# EAGLE library part STM32L452RET_64PIN_SMPS (library df4iah_stm32l4)
STM32L452RET6P 64LQFP
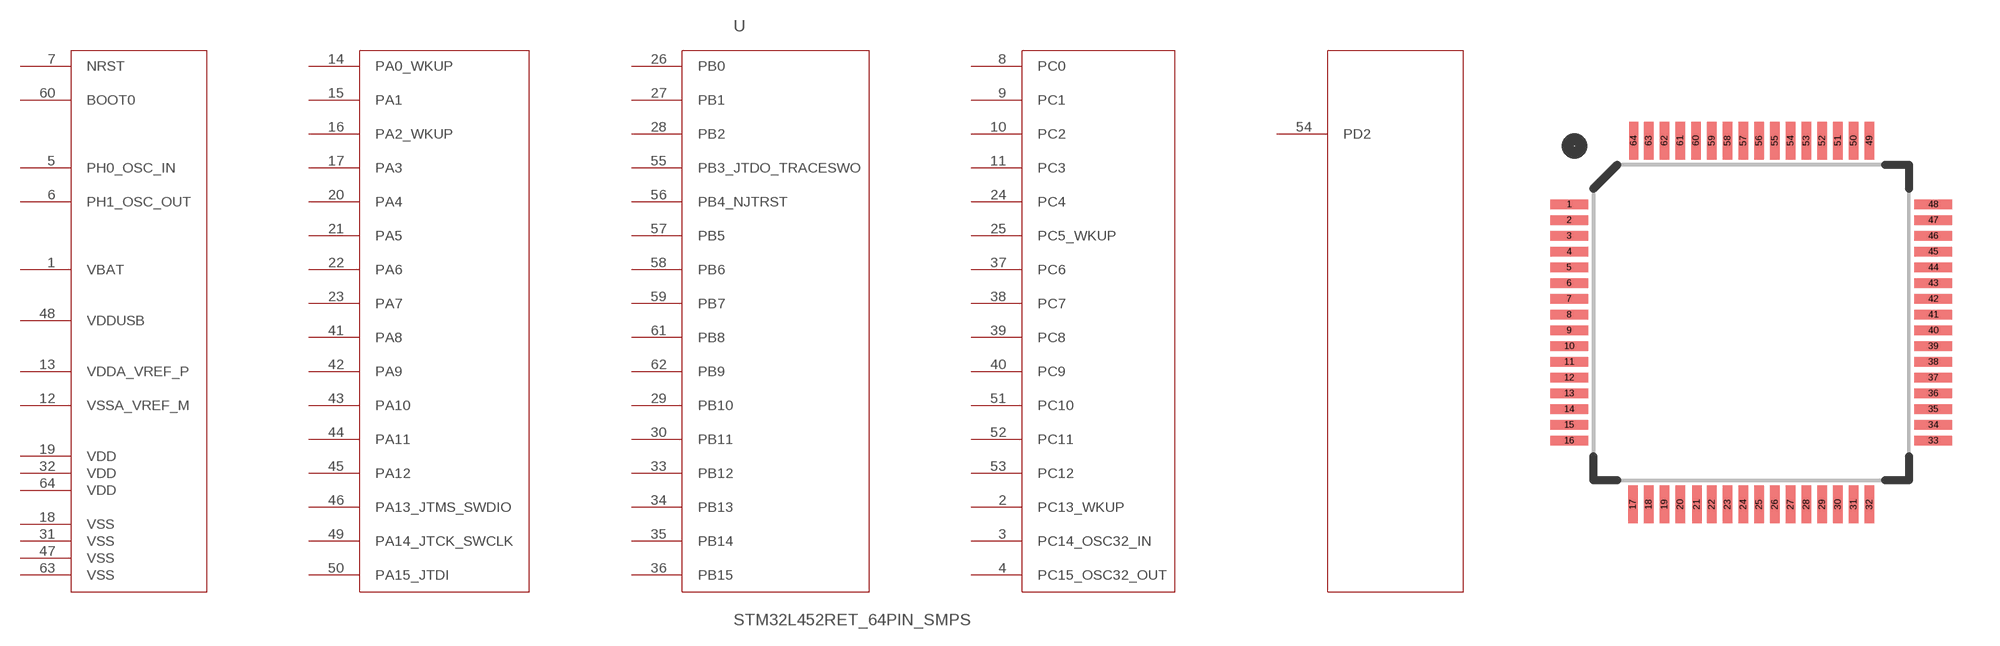
[diagram p3: symbol with the pads of LQFP64; footprint LQFP64]

Designator prefix U

## STM32L452RET_64PIN_SMPS  [LQFP64]
1  VBAT  pwr
2  PC13_WKUP
3  PC14_OSC32_IN
4  PC15_OSC32_OUT
5  PH0_OSC_IN
6  PH1_OSC_OUT
7  NRST
8  PC0
9  PC1
10  PC2
11  PC3
12  VSSA_VREF_M  pas
13  VDDA_VREF_P  pwr
14  PA0_WKUP
15  PA1
16  PA2_WKUP
17  PA3
18  VSS  pas
19  VDD  pwr
20  PA4
21  PA5
22  PA6
23  PA7
24  PC4
25  PC5_WKUP
26  PB0
27  PB1
28  PB2
29  PB10
30  PB11
31  VSS  pas
32  VDD  pwr
33  PB12
34  PB13
35  PB14
36  PB15
37  PC6
38  PC7
39  PC8
40  PC9
41  PA8
42  PA9
43  PA10
44  PA11
45  PA12
46  PA13_JTMS_SWDIO
47  VSS  pas
48  VDDUSB  pwr
49  PA14_JTCK_SWCLK
50  PA15_JTDI
51  PC10
52  PC11
53  PC12
54  PD2
55  PB3_JTDO_TRACESWO
56  PB4_NJTRST
57  PB5
58  PB6
59  PB7
60  BOOT0  out
61  PB8
62  PB9
63  VSS  pas
64  VDD  pwr

## Footprint LQFP64 (pad centres in mm)
LQFP64 0.5mm pitch
smd 1.2 x 0.3: 1 -5.775,3.75; 2 -5.775,3.25; 3 -5.775,2.75; 4 -5.775,2.25; 5 -5.775,1.75; 6 -5.775,1.25; 7 -5.775,0.75; 8 -5.775,0.25; 9 -5.775,-0.25; 10 -5.775,-0.75; 11 -5.775,-1.25; 12 -5.775,-1.75; 13 -5.775,-2.25; 14 -5.775,-2.75; 15 -5.775,-3.25; 16 -5.775,-3.75; 33 5.775,-3.75; 34 5.775,-3.25; 35 5.775,-2.75; 36 5.775,-2.25; 37 5.775,-1.75; 38 5.775,-1.25; 39 5.775,-0.75; 40 5.775,-0.25; 41 5.775,0.25; 42 5.775,0.75; 43 5.775,1.25; 44 5.775,1.75; 45 5.775,2.25; 46 5.775,2.75; 47 5.775,3.25; 48 5.775,3.75
smd 0.3 x 1.2: 17 -3.75,-5.775; 18 -3.25,-5.775; 19 -2.75,-5.775; 20 -2.25,-5.775; 21 -1.725,-5.775; 22 -1.25,-5.775; 23 -0.75,-5.775; 24 -0.25,-5.775; 25 0.25,-5.775; 26 0.75,-5.775; 27 1.25,-5.775; 28 1.75,-5.775; 29 2.25,-5.775; 30 2.75,-5.775; 31 3.25,-5.775; 32 3.75,-5.775; 49 3.75,5.775; 50 3.25,5.775; 51 2.75,5.775; 52 2.25,5.775; 53 1.75,5.775; 54 1.25,5.775; 55 0.75,5.775; 56 0.25,5.775; 57 -0.25,5.775; 58 -0.75,5.775; 59 -1.25,5.775; 60 -1.75,5.775; 61 -2.25,5.775; 62 -2.75,5.775; 63 -3.25,5.775; 64 -3.725,5.775